# Altium integrated library WE-RJ45_LAN_rev15b.intlib: 3 symbols
Pins are listed as number, name and electrical type; pins without a type are passive.

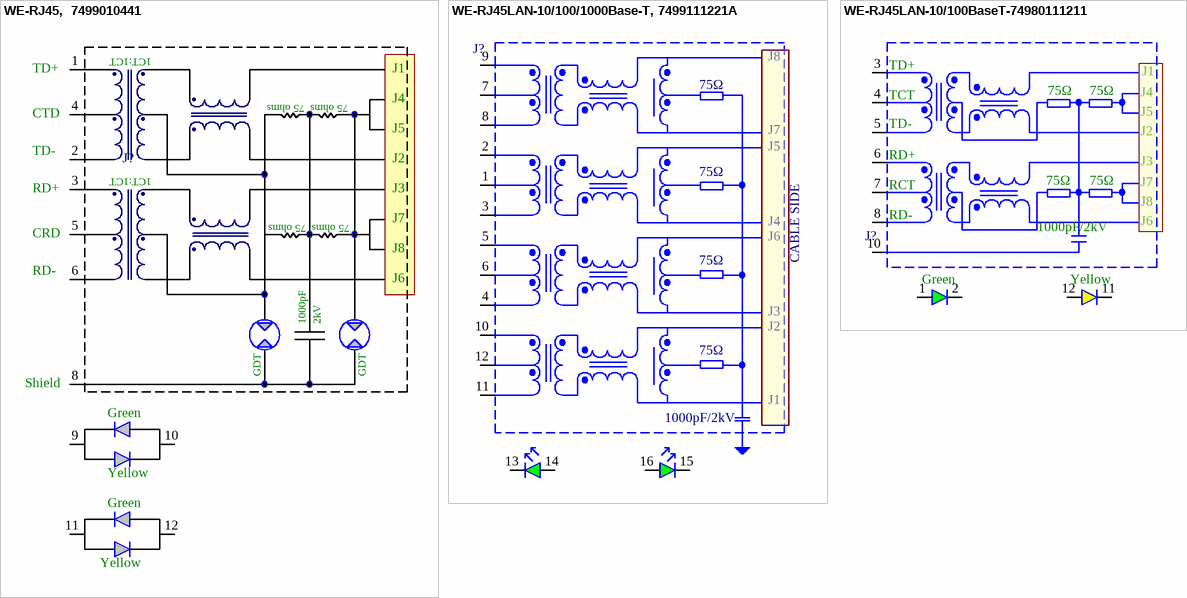
[diagram p0: symbols WE-RJ45,  7499010441 to WE-RJ45LAN-10/100BaseT-74980111211]

## WE-RJ45,  7499010441
designator J?, comment 360-400 V (DC)  (value not drawn)
LAN Transformer WE-RJ45, with Surge Protection; PartNo: 7499010441; Manufacturer: W黵th Elektronik eiSos GmbH; (Input Voltage) Ui: 360-400 V (DC); ComponentLink1Description: Manufacturer; ComponentLink1URL: http://www.we-online.de; Created by: Otto Christin; Created Date: NOV 2013; ComponentLink2Description: Datasheet; ComponentLink2URL: http://www.we-online.de/katalog/media/pdf/7499010441.pdf
footprint WE-RJ45 LAN (with Surge Protection, RJ45 LAN CONNECTOR 16.04X 21.30 MM)
pins: 1 TD+, 2 TD-, 3 RD+, 4 CTD, 5 CRD, 6 RD-, 8 Shield, 9, 10, 11, 12
text: 1CT:1CT; J1; 75 ohms; J4; J5; J2; J3; J7; J8; J6; 1000pF; 2kV; GDT; Green; Yellow

## WE-RJ45LAN-10/100/1000Base-T, 7499111221A
designator J?
Integrated RJ45 Transformer WE-RJ45LAN; PartNo: 7499111221A; Manufacturer: Wurth Elektronik; E-mail: libraries@we-online.com; ComponentLink1Description: Manufacturer; ComponentLink1URL: http://www.we-online.de; Created by: Karrer Zheng; Created Date: May 2015; ComponentLink2Description: Datasheet; ComponentLink2URL: http://www.we-online.de/katalog/media/pdf/7499111221A.pdf
footprint 7499111221A
pins: 1, 2, 3, 4, 5, 6, 7, 8, 9, 10, 11, 12, 13 K, 14 A, 15 K, 16 A
text: J8; 75Ω; J7; J5; J4; J6; CABLE SIDE; J3; J2; J1; 1000pF/2kV

## WE-RJ45LAN-10/100BaseT-74980111211
designator J?
Integrated RJ45 Transformer WE-RJ45LAN; PartNo: 74980111211; Manufacturer: Wurth Elektronik; E-mail: libraries@we-online.com; ComponentLink1Description: Manufacturer; ComponentLink1URL: http://www.we-online.de; Created by: Karrer Zheng; Created Date: Feb 2015; ComponentLink2Description: Datasheet; ComponentLink2URL: http://www.we-online.de/katalog/media/pdf/74980111211.pdf
footprint 74980111211 (10/100Base-T, SMD, 1x1, Tab up, with shield tabs, LED L-R yellow-green; ETR)
pins: 1 +, 2 -, 3 RD+, 4 RCT, 5 RD-, 6 TD+, 7 TCT, 8 TD-, 10 SH, 11 -, 12 +
text: J1; 75Ω; J4; J5; J2; J3; J7; J8; J6; 1000pF/2kV; Green; Yellow